# Altium footprint library Transformers.PcbLib: 1 footprints
Each footprint in its own frame and in the unit in brackets; x right, y up, seen from the top. Pads: shape width x height; smd on the part's side, far side on the other; paste and mask are expansions set on the pad; w line width, h text height; cw(c..) or ccw(c..) is an arc to the next point about the centre after c.
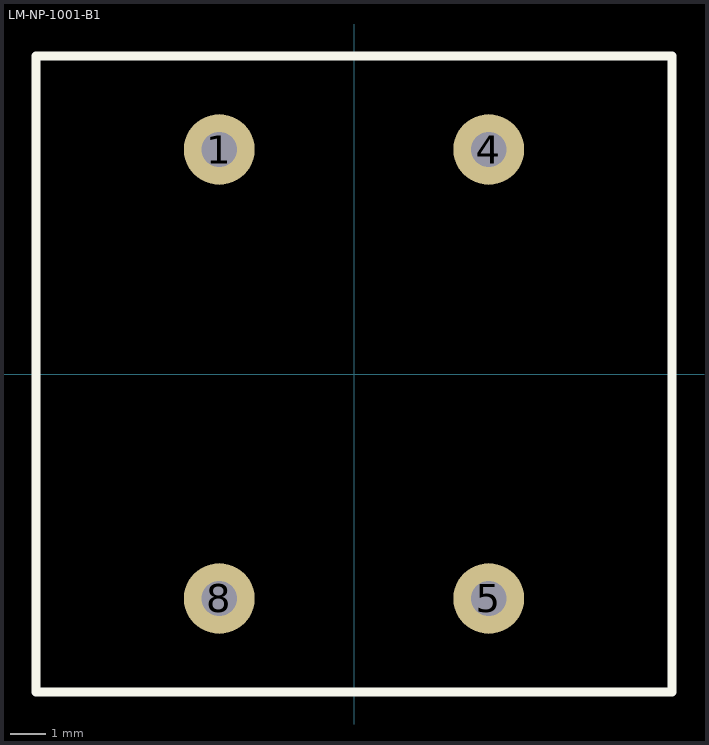
[diagram p0: the footprint, top view; thin cyan lines are the x and y axes]

## LM-NP-1001-B1 [mm]
pads (4):
  round 2 hole 1: 1(-3.812,6.35) 4(3.813,6.35) 5(3.813,-6.35) 8(-3.812,-6.35)
Top Overlay:
  lines w0.254: -9,-9 -9,9 9,9 9,-9 -9,-9
3D body "User Library-LM-NP-1001-B1.step": height 12.6, standoff -3.2, extent -8.85,-8.85 8.85,8.85